# Altium footprint library Molex Microfit 3.0 8x1.PcbLib: 1 footprints
Each footprint in its own frame and in the unit in brackets; x right, y up, seen from the top. Pads: shape width x height; smd on the part's side, far side on the other; paste and mask are expansions set on the pad; w line width, h text height; cw(c..) or ccw(c..) is an arc to the next point about the centre after c.
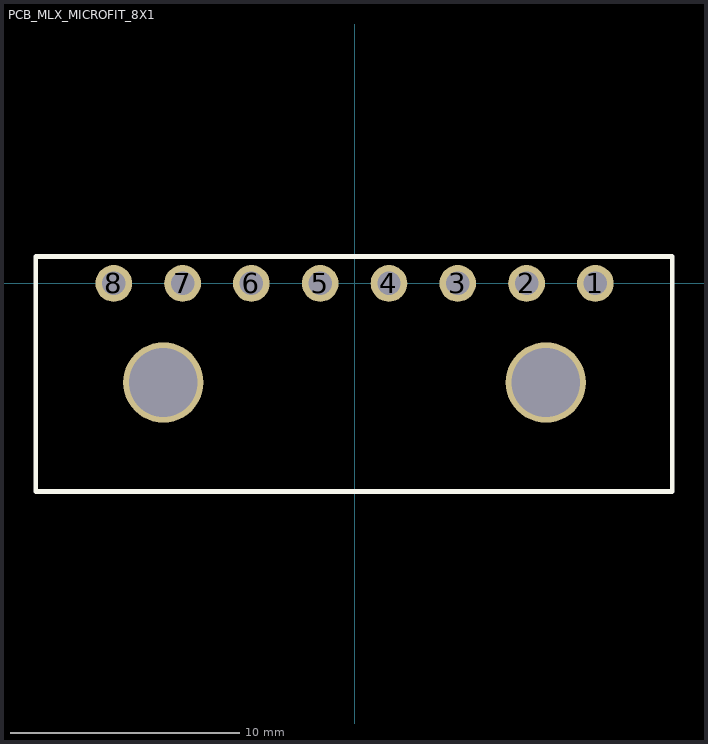
[diagram p0: the footprint, top view; thin cyan lines are the x and y axes]

## PCB_MLX_MICROFIT_8X1 [mm] "Molex Microfit 8x1 connector"
height 5.57
pads (10):
  round 1.6 hole 1.02: 1(10.5,0) 2(7.5,0) 3(4.5,0) 4(1.5,0) 5(-1.5,0) 6(-4.5,0) 7(-7.5,0) 8(-10.5,0)
  round 3.5 hole 3: ""(-8.34,-4.32) ""(8.34,-4.32)
Top Overlay:
  lines w0.2: -13.9,-9.075 -13.9,1.175 13.85,1.175 13.85,-9.075 -13.9,-9.075
3D body "436500800.stp": height 5.64, standoff -3.27, extent -13.82,-9 13.82,0.9